# Altium schematic symbol library Memory_RAM.SchLib: 2 symbols
Pins are listed as number, name and electrical type; pins without a type are passive.

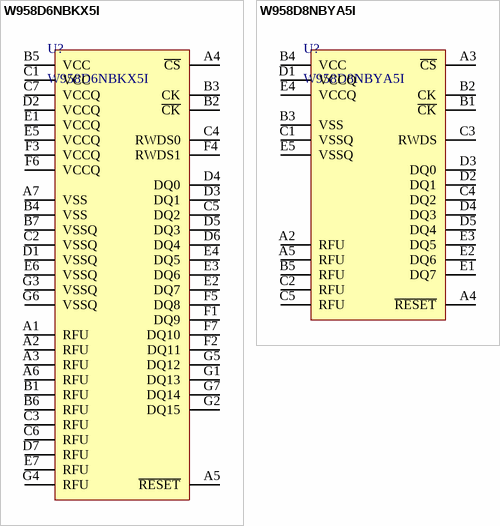
[diagram p0: symbols W958D6NBKX5I to W958D8NBYA5I]

## W958D6NBKX5I
designator U?
HyperRAM, 1.8V, 16bits, 256Mb
footprint WFBGA-49_4x4mm_P0.5mm
pins: A1 RFU, A2 RFU, A3 RFU, A4 ~{CS}, A5 ~{RESET}, A6 RFU, A7 VSS, B1 RFU, B2 ~{CK}, B3 CK, B4 VSS, B5 VCC, B6 RFU, B7 VSSQ, C1 VCC, C2 VSSQ, C3 RFU, C4 RWDS0, C5 DQ2, C6 RFU, C7 VCCQ, D1 VSSQ, D2 VCCQ, D3 DQ1, D4 DQ0, D5 DQ3, D6 DQ4, D7 RFU, E1 VCCQ, E2 DQ7, E3 DQ6, E4 DQ5, E5 VCCQ, E6 VSSQ, E7 RFU, F1 DQ9, F2 DQ11, F3 VCCQ, F4 RWDS1, F5 DQ8, F6 VCCQ, F7 DQ10, G1 DQ13, G2 DQ15, G3 VSSQ, G4 RFU, G5 DQ12, G6 VSSQ, G7 DQ14

## W958D8NBYA5I
designator U?
HyperRAM, 1.8V, 8bits, 256Mb
footprint TFBGA-24_6x8mm_P1.0mm
pins: A2 RFU, A3 ~{CS}, A4 ~{RESET}, A5 RFU, B1 ~{CK}, B2 CK, B3 VSS, B4 VCC, B5 RFU, C1 VSSQ, C2 RFU, C3 RWDS, C4 DQ2, C5 RFU, D1 VCCQ, D2 DQ1, D3 DQ0, D4 DQ3, D5 DQ4, E1 DQ7, E2 DQ6, E3 DQ5, E4 VCCQ, E5 VSSQ